# Altium integrated library ADM4853ACPZ-REEL7.IntLib: 1 symbol
Pins are listed as number, name and electrical type; pins without a type are passive.

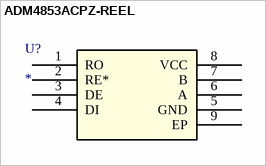
[diagram p0: symbol ADM4853ACPZ-REEL]

## ADM4853ACPZ-REEL
designator U?
Imported; Manufacturer_Part_Number: ADM4853ACPZ-REEL7; Vendor: Analog Devices Inc; Built_By: EMA_UL_Team; C: Copyright (C) 2015 Accelerated Designs. All rights reserved; RefDes: RefDes; Type: DEV; Value: Value
footprint CP_8_2
pins: 1 RO, 2 RE*, 3 DE, 4 DI, 5 GND, 6 A, 7 B, 8 VCC (power), 9 EP